# EAGLE library part 10280-6212PC (library 3M_By_element14_Batch_1)
Mini Ribbon Connector
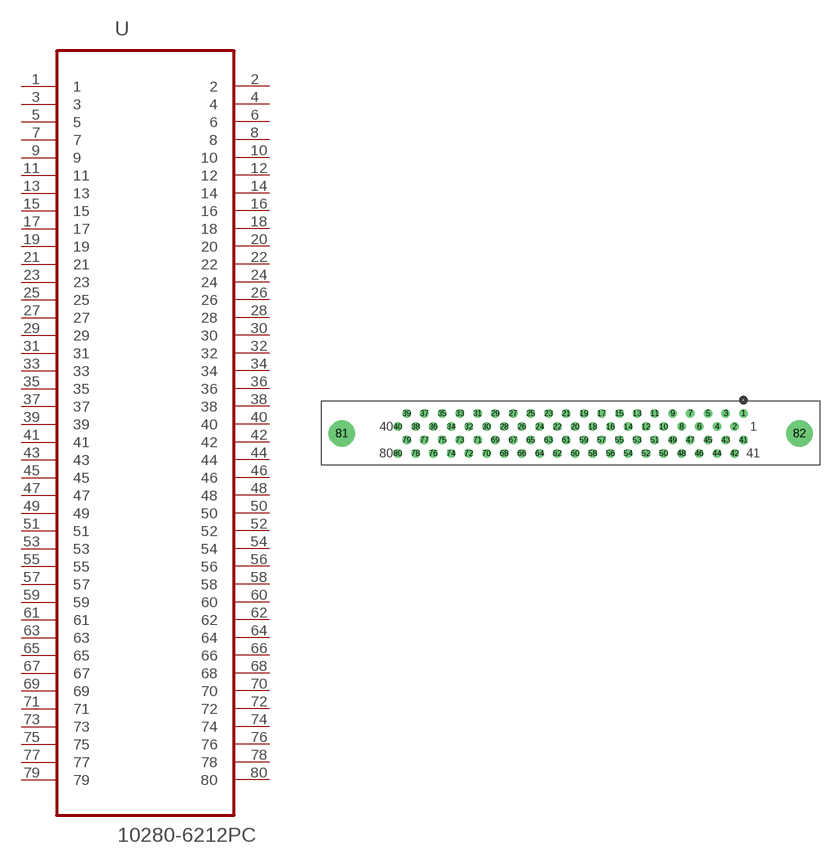
[diagram p12: symbol with the pads of 3M_10280-6212PC; footprint 3M_10280-6212PC]

Designator prefix U

## 10280-6212PC (MPN: 10280-6212PC; OC_FARNELL: 1428365; OC_NEWARK: 93K6336; PACKAGE: Mini Ribbon Connector-80Pin; SUPPLIER: 3M)  [3M_10280-6212PC]
1  1  pas
2  2  pas
3  3  pas
4  4  pas
5  5  pas
6  6  pas
7  7  pas
8  8  pas
9  9  pas
10  10  pas
11  11  pas
12  12  pas
13  13  pas
14  14  pas
15  15  pas
16  16  pas
17  17  pas
18  18  pas
19  19  pas
20  20  pas
21  21  pas
22  22  pas
23  23  pas
24  24  pas
25  25  pas
26  26  pas
27  27  pas
28  28  pas
29  29  pas
30  30  pas
31  31  pas
32  32  pas
33  33  pas
34  34  pas
35  35  pas
36  36  pas
37  37  pas
38  38  pas
39  39  pas
40  40  pas
41  41  pas
42  42  pas
43  43  pas
44  44  pas
45  45  pas
46  46  pas
47  47  pas
48  48  pas
49  49  pas
50  50  pas
51  51  pas
52  52  pas
53  53  pas
54  54  pas
55  55  pas
56  56  pas
57  57  pas
58  58  pas
59  59  pas
60  60  pas
61  61  pas
62  62  pas
63  63  pas
64  64  pas
65  65  pas
66  66  pas
67  67  pas
68  68  pas
69  69  pas
70  70  pas
71  71  pas
72  72  pas
73  73  pas
74  74  pas
75  75  pas
76  76  pas
77  77  pas
78  78  pas
79  79  pas
80  80  pas

## Footprint 3M_10280-6212PC (pad centres in mm)
drill 0.711: 1 49.53,5.715; 2 48.26,3.81; 3 46.99,5.715; 4 45.72,3.81; 5 44.45,5.715; 6 43.18,3.81; 7 41.91,5.715; 8 40.64,3.81; 9 39.37,5.715; 10 38.1,3.81; 11 36.83,5.715; 12 35.56,3.81; 13 34.29,5.715; 14 33.02,3.81; 15 31.75,5.715; 16 30.48,3.81; 17 29.21,5.715; 18 27.94,3.81; 19 26.67,5.715; 20 25.4,3.81; 21 24.13,5.715; 22 22.86,3.81; 23 21.59,5.715; 24 20.32,3.81; 25 19.05,5.715; 26 17.78,3.81; 27 16.51,5.715; 28 15.24,3.81; 29 13.97,5.715; 30 12.7,3.81; 31 11.43,5.715; 32 10.16,3.81; 33 8.89,5.715; 34 7.62,3.81; 35 6.35,5.715; 36 5.08,3.81; 37 3.81,5.715; 38 2.54,3.81; 39 1.27,5.715; 40 0,3.81; 41 49.53,1.905; 42 48.26,0; 43 46.99,1.905; 44 45.72,0; 45 44.45,1.905; 46 43.18,0; 47 41.91,1.905; 48 40.64,0; 49 39.37,1.905; 50 38.1,0; 51 36.83,1.905; 52 35.56,0; 53 34.29,1.905; 54 33.02,0; 55 31.75,1.905; 56 30.48,0; 57 29.21,1.905; 58 27.94,0; 59 26.67,1.905; 60 25.4,0; 61 24.13,1.905; 62 22.86,0; 63 21.59,1.905; 64 20.32,0; 65 19.05,1.905; 66 17.78,0; 67 16.51,1.905; 68 15.24,0; 69 13.97,1.905; 70 12.7,0; 71 11.43,1.905; 72 10.16,0; 73 8.89,1.905; 74 7.62,0; 75 6.35,1.905; 76 5.08,0; 77 3.81,1.905; 78 2.54,0; 79 1.27,1.905; 80 0,0
drill 2.794: 81 -8.026,2.845; 82 57.556,2.845